# EAGLE library part LDU240S500 (library rti)
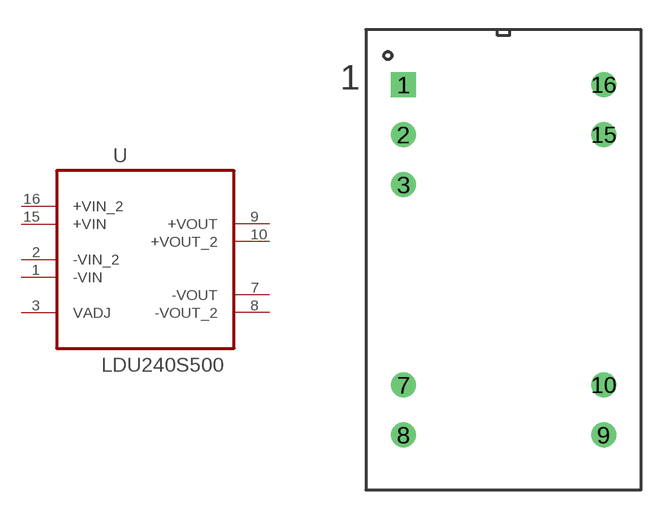
[diagram p1: symbol with the pads of RELAY_LDU2430S700; footprint RELAY_LDU2430S700]

Designator prefix -

## LDU240S500  [RELAY_LDU2430S700]
1  -VIN  pas
2  -VIN_2  pas
3  VADJ  pas
7  -VOUT  pas
8  -VOUT_2  pas
9  +VOUT  pas
10  +VOUT_2  pas
15  +VIN  pas
16  +VIN_2  pas

## Footprint RELAY_LDU2430S700 (pad centres in mm)
drill 0.762 pad 1.27 square: 1 -5.08,8.89
drill 0.762 pad 1.27: 2 -5.08,6.35; 3 -5.08,3.81; 7 -5.08,-6.35; 8 -5.08,-8.89; 9 5.08,-8.89; 10 5.08,-6.35; 15 5.08,6.35; 16 5.08,8.89